# Altium integrated library Sensors.IntLib: 2 symbols
Pins are listed as number, name and electrical type; pins without a type are passive.

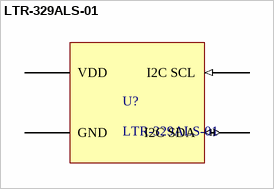
[diagram p0: symbol LTR-329ALS-01]

## LTR-329ALS-01
designator U?
Optical Sensor Ambient I²C 4-VDFN; Supplier 1: Digi-Key; Supplier Part Number 1: 160-2160-2-ND
footprint LTR-329ALS-01 (Optical Sensor Ambient I²C 4-VDFN)
pins: 1 VDD (power), 2 GND (power), 3 I2C SDA (io), 4 I2C SCL (in)


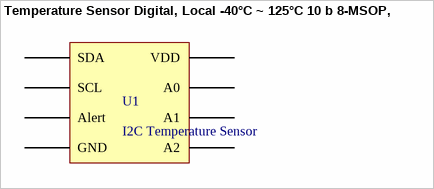
[diagram p1: symbol Temperature Sensor Digital, Local -40°C ~ 125°C 10 b 8-MSOP, Digikey; MCP9808T-E/MSCT-ND Mfg; MCP9808T-E/MS]

## Temperature Sensor Digital, Local -40°C ~ 125°C 10 b 8-MSOP, Digikey; MCP9808T-E/MSCT-ND Mfg; MCP9808T-E/MS
designator U1, comment I2C Temperature Sensor
footprint SENSOR TEMP I2C/SMBUS 8MSOP (Temperature Sensor Digital, Local -40°C ~ 125°C 10 b 8-MSOP, Digikey; MCP9808T-E/MSCT-ND Mfg; MCP9808T-E/MS)
pins: 1 SDA, 2 SCL, 3 Alert, 4 GND, 5 A2, 6 A1, 7 A0, 8 VDD